# Altium integrated library Button.IntLib: 2 symbols
Pins are listed as number, name and electrical type; pins without a type are passive.

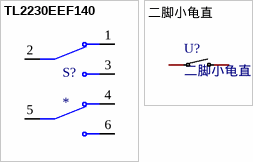
[diagram p0: symbols TL2230EEF140 to 二脚小龟直]

## TL2230EEF140
designator S?
MF: {'manufacturer': u'E-Switch'}; MP: TL2230EEF140; Package: None; Price: None; Value: *; Availability: Unavailable
footprint SW_TL2230EEF140
pins: 1 NC1, 2 COM1, 3 NO1, 4 NC2, 5 COM2, 6 NO2

## 二脚小龟直
designator U?
Add into BOM: yes; Symbol: 二脚小龟直; Device: 二脚小龟直; LCSC Part Name: 二脚小龟直; Supplier Part: C2940098; Manufacturer Part: 二脚小龟直; Supplier Footprint: SW-SMD_L3.9-W3.0-LS5.0; JLCPCB Part Class: Extended Part; Datasheet: 2021-12-28/598873A/26d341e5d2844709acf10a21465c7587/领祥-二脚小龟直.pdf; Supplier: LCSC; Convert to PCB: yes; Name: 二脚小龟直
footprint KEY-SMD_L3.9-W3.0-LS5.0
pins: 1, 2